# Altium footprint library SOIC127P600X175-8N.PcbLib: 1 footprints
Each footprint in its own frame and in the unit in brackets; x right, y up, seen from the top. Pads: shape width x height; smd on the part's side, far side on the other; paste and mask are expansions set on the pad; w line width, h text height; cw(c..) or ccw(c..) is an arc to the next point about the centre after c.
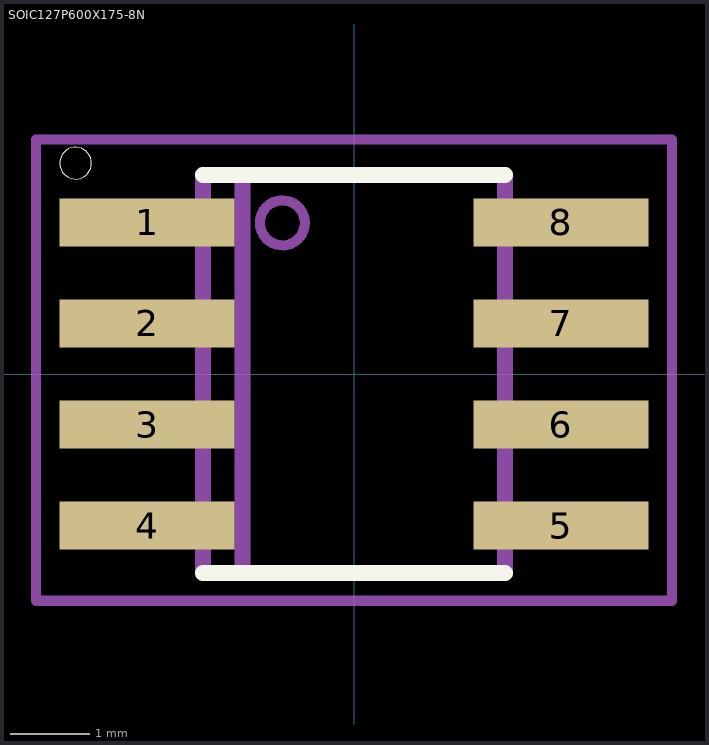
[diagram p0: the footprint, top view; thin cyan lines are the x and y axes]

## SOIC127P600X175-8N [mm]
pads (8):
  rect 2.2x0.6 smd: 1(-2.6,1.905) 2(-2.6,0.635) 3(-2.6,-0.635) 4(-2.6,-1.905) 5(2.6,-1.905) 6(2.6,-0.635) 7(2.6,0.635) 8(2.6,1.905)
Top Overlay:
  circle w0: c-3.5,2.65 r0.2
  lines w0.203: -1.9,-2.5 1.9,-2.5 ; -1.9,2.5 1.9,2.5
Mechanical 13:
  circle w0.127: c-0.9,1.9 r0.283
  region: -2.002,1.659 -3.101,1.659 -3.101,2.152 -2.002,2.152
  region: -2,0.39 -3.1,0.39 -3.1,0.88 -2,0.88
  region: -2,-0.88 -3.1,-0.88 -3.1,-0.39 -2,-0.39
  region: -2,-2.153 -3.103,-2.153 -3.103,-1.66 -2,-1.66
  region: 3.102,-2.15 2,-2.15 2,-1.662 3.102,-1.662
  region: 3.1,-0.88 2,-0.88 2,-0.39 3.1,-0.39
  region: 3.102,0.392 2.002,0.392 2.002,0.878 3.102,0.878
  region: 3.101,1.662 2.003,1.662 2.003,2.149 3.101,2.149
  lines w0.203: -1.9,-2.5 -1.9,2.5 ; -1.4,-2.5 -1.4,2.5 ; 1.9,-2.5 1.9,2.5
Mechanical 15:
  lines w0.127: -4,-2.85 4,-2.85 4,2.95 -4,2.95 -4,-2.85
3D body "step_temp.STEP": height 1.75, standoff 0, extent -3,-2.45 3,2.45